# EAGLE library part MBI5039 (library _LedDrivers)
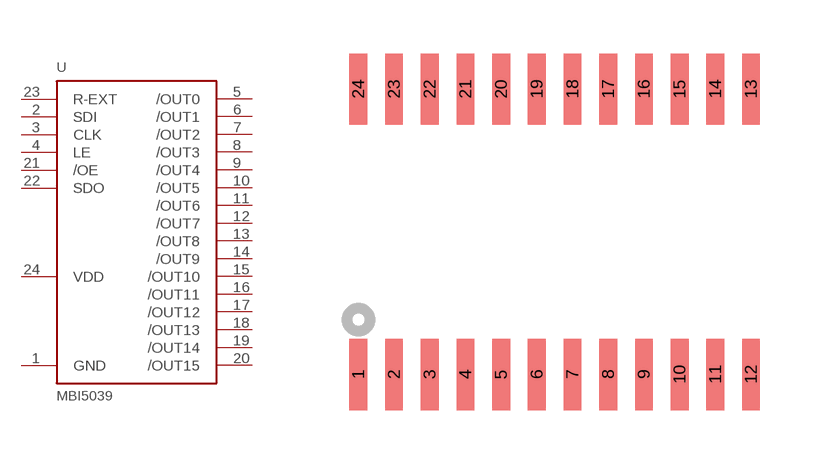
[diagram p3: symbol with the pads of SOP24-300-1.00; footprint SOP24-300-1.00]

Designator prefix -

## MBI5039SOP24-300-1.00  [SOP24-300-1.00]
1  GND
2  SDI
3  CLK
4  LE
5  /OUT0
6  /OUT1
7  /OUT2
8  /OUT3
9  /OUT4
10  /OUT5
11  /OUT6
12  /OUT7
13  /OUT8
14  /OUT9
15  /OUT10
16  /OUT11
17  /OUT12
18  /OUT13
19  /OUT14
20  /OUT15
21  /OE
22  SDO
23  R-EXT
24  VDD

## Footprint SOP24-300-1.00 (pad centres in mm)
SMALL OUTLINE PACKAGE
smd 0.5 x 2: 1 -5.48,-4.08; 2 -4.48,-4.08; 3 -3.48,-4.08; 4 -2.48,-4.08; 5 -1.48,-4.08; 6 -0.48,-4.08; 7 0.52,-4.08; 8 1.52,-4.08; 9 2.52,-4.08; 10 3.52,-4.08; 11 4.52,-4.08; 12 5.52,-4.08; 13 5.52,3.92; 14 4.52,3.92; 15 3.52,3.92; 16 2.52,3.92; 17 1.52,3.92; 18 0.52,3.92; 19 -0.48,3.92; 20 -1.48,3.92; 21 -2.48,3.92; 22 -3.48,3.92; 23 -4.48,3.92; 24 -5.48,3.92